# EAGLE library part ATSAMC21J18A (library washuracing)
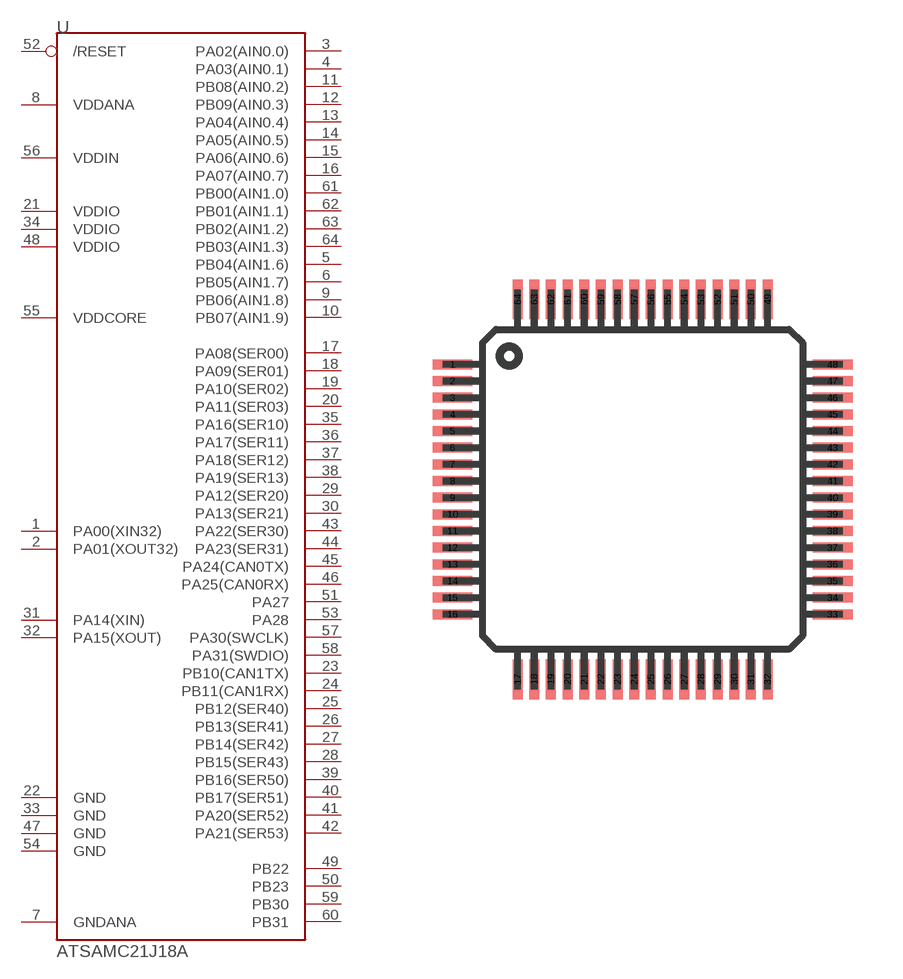
[diagram p1: symbol with the pads of TQFP64-05; footprint TQFP64-05]

Designator prefix U

## ATSAMC21J18A-AU  [TQFP64-05]
1  PA00(XIN32)
2  PA01(XOUT32)
3  PA02(AIN0.0)
4  PA03(AIN0.1)
5  PB04(AIN1.6)
6  PB05(AIN1.7)
7  GNDANA  pwr
8  VDDANA  pwr
9  PB06(AIN1.8)
10  PB07(AIN1.9)
11  PB08(AIN0.2)
12  PB09(AIN0.3)
13  PA04(AIN0.4)
14  PA05(AIN0.5)
15  PA06(AIN0.6)
16  PA07(AIN0.7)
17  PA08(SER00)
18  PA09(SER01)
19  PA10(SER02)
20  PA11(SER03)
21  VDDIO  pwr
22  GND  pwr
23  PB10(CAN1TX)
24  PB11(CAN1RX)
25  PB12(SER40)
26  PB13(SER41)
27  PB14(SER42)
28  PB15(SER43)
29  PA12(SER20)
30  PA13(SER21)
31  PA14(XIN)
32  PA15(XOUT)
33  GND  pwr
34  VDDIO  pwr
35  PA16(SER10)
36  PA17(SER11)
37  PA18(SER12)
38  PA19(SER13)
39  PB16(SER50)
40  PB17(SER51)
41  PA20(SER52)
42  PA21(SER53)
43  PA22(SER30)
44  PA23(SER31)
45  PA24(CAN0TX)
46  PA25(CAN0RX)
47  GND  pwr
48  VDDIO  pwr
49  PB22
50  PB23
51  PA27
52  /RESET  in
53  PA28
54  GND  pwr
55  VDDCORE  out
56  VDDIN  pwr
57  PA30(SWCLK)
58  PA31(SWDIO)
59  PB30
60  PB31
61  PB00(AIN1.0)
62  PB01(AIN1.1)
63  PB02(AIN1.2)
64  PB03(AIN1.3)

## Footprint TQFP64-05 (pad centres in mm)
Thin Quad Flat Pack package type TQ
smd 1.2 x 0.3: 1 -5.7,3.75; 2 -5.7,3.25; 3 -5.7,2.75; 4 -5.7,2.25; 5 -5.7,1.75; 6 -5.7,1.25; 7 -5.7,0.75; 8 -5.7,0.25; 9 -5.7,-0.25; 10 -5.7,-0.75; 11 -5.7,-1.25; 12 -5.7,-1.75; 13 -5.7,-2.25; 14 -5.7,-2.75; 15 -5.7,-3.25; 16 -5.7,-3.75; 33 5.7,-3.75; 34 5.7,-3.25; 35 5.7,-2.75; 36 5.7,-2.25; 37 5.7,-1.75; 38 5.7,-1.25; 39 5.7,-0.75; 40 5.7,-0.25; 41 5.7,0.25; 42 5.7,0.75; 43 5.7,1.25; 44 5.7,1.75; 45 5.7,2.25; 46 5.7,2.75; 47 5.7,3.25; 48 5.7,3.75
smd 0.3 x 1.2: 17 -3.75,-5.7; 18 -3.25,-5.7; 19 -2.75,-5.7; 20 -2.25,-5.7; 21 -1.75,-5.7; 22 -1.25,-5.7; 23 -0.75,-5.7; 24 -0.25,-5.7; 25 0.25,-5.7; 26 0.75,-5.7; 27 1.25,-5.7; 28 1.75,-5.7; 29 2.25,-5.7; 30 2.75,-5.7; 31 3.25,-5.7; 32 3.75,-5.7; 49 3.75,5.7; 50 3.25,5.7; 51 2.75,5.7; 52 2.25,5.7; 53 1.75,5.7; 54 1.25,5.7; 55 0.75,5.7; 56 0.25,5.7; 57 -0.25,5.7; 58 -0.75,5.7; 59 -1.25,5.7; 60 -1.75,5.7; 61 -2.25,5.7; 62 -2.75,5.7; 63 -3.25,5.7; 64 -3.75,5.7